# EAGLE library part TS882 (library ts882)
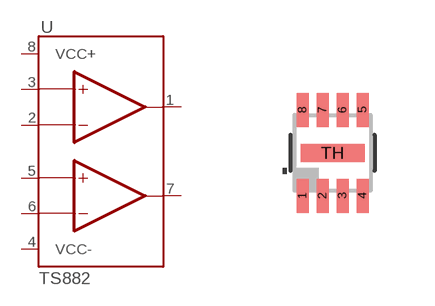
[diagram p0: symbol with the pads of UDFN8; footprint UDFN8]

Designator prefix U

## TS882  [UDFN8]
1  OUT1  out
2  IN1-  in
3  IN1+  in
4  VCC-
5  IN2+  in
6  IN2-  in
7  OUT2  out
8  VCC+

## Footprint UDFN8 (pad centres in mm)
uDFN 8 Source: http://datasheets.maxim-ic.com/en/ds/MAX4906-MAX4907F.pdf
smd 0.3 x 0.85: 1 -0.75,-1.075; 2 -0.25,-1.075; 3 0.25,-1.075; 4 0.75,-1.075; 5 0.75,1.075; 6 0.25,1.075; 7 -0.25,1.075; 8 -0.75,1.075
smd 1.6 x 0.45: TH 0,0